# Altium schematic symbol library LM75AIM.Schlib: 1 symbol
Pins are listed as number, name and electrical type; pins without a type are passive.

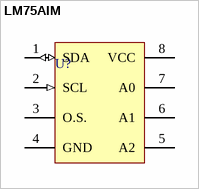
[diagram p0: symbol LM75AIM]

## LM75AIM
designator U?
I2C Digital Temperature Sensor
pins: 1 SDA (io) "Terminals for current being sensed; fused internally", 2 SCL (in) "Terminals for current being sensed; fused internally", 3 O.S. "Terminals for current being sensed; fused internally", 4 GND (power) "Terminals for current being sensed; fused internally", 5 A2 "Signal ground terminal", 6 A1 "Overcurrent fault; active low", 7 A0 "Analog output signal", 8 VCC "Device power supply terminal"